# Altium footprint library 3V6_zener_BZT52C3V6-7-F.PcbLib: 3 footprints
Each footprint in its own frame and in the unit in brackets; x right, y up, seen from the top. Pads: shape width x height; smd on the part's side, far side on the other; paste and mask are expansions set on the pad; w line width, h text height; cw(c..) or ccw(c..) is an arc to the next point about the centre after c.
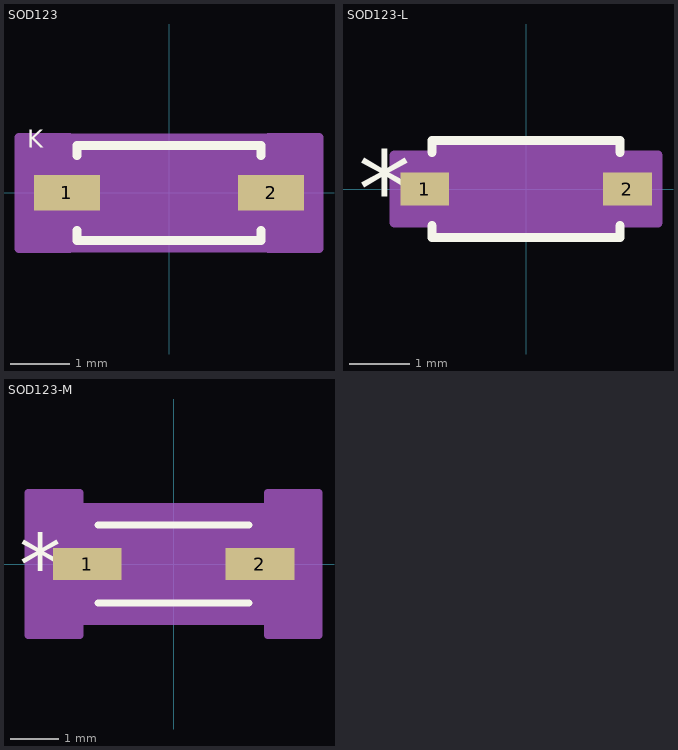
[diagram p0: the footprints below, top view; thin cyan lines are the x and y axes]

## SOD123 [mm]
pads (2):
  rect 1.111x0.601 smd paste+0 mask+0: 1(-1.725,0) 2(1.725,0)
Top Overlay:
  lines w0.152: -1.552,-0.633 -1.552,-0.802 1.552,-0.802 1.552,-0.633 ; -1.552,0.633 -1.552,0.802 1.552,0.802 1.552,0.633
  text "K" at -2.393,0.762 h0.3
Mechanical 13:
  lines w0.025: -1.425,-0.337 -1.087,-0.675 ; -1.425,0.337 -1.087,0.675 ; -1.925,-0.275 -1.425,-0.275 -1.425,0.275 -1.925,0.275 -1.925,-0.275 ; -1.425,-0.675 -1.425,0.675 1.425,0.675 1.425,-0.675 -1.425,-0.675 ; 1.425,-0.275 1.925,-0.275 1.925,0.275 1.425,0.275 1.425,-0.275
  text "*" at -1.488,-0.635 h1.27
Mechanical 15:
  region: -1.679,-0.937 -2.535,-0.937 -2.535,0.937 -1.679,0.937 -1.679,0.929 1.679,0.929 1.679,0.937 2.535,0.937 2.535,-0.937 1.679,-0.937 1.679,-0.929 -1.679,-0.929
  lines w0.152: -2.535,-0.937 -1.679,-0.937 -1.679,-0.929 1.679,-0.929 1.679,-0.937 2.535,-0.937 2.535,0.937 1.679,0.937 1.679,0.929 -1.679,0.929 -1.679,0.937 -2.535,0.937 -2.535,-0.937
3D body: height 0.25, standoff 0, extent 0,0 0.254,0.254
3D body "SOD123.stp": height 0.81, standoff 0, extent -1.925,-0.675 1.925,0.675

## SOD123-L [mm]
pads (2):
  rect 0.806x0.55 smd paste+0 mask+0: 1(-1.674,0) 2(1.674,0)
Top Overlay:
  lines w0.152: -1.552,-0.608 -1.552,-0.802 1.552,-0.802 1.552,-0.608 ; -1.552,0.608 -1.552,0.802 1.552,0.802 1.552,0.608
  text "*" at -2.776,-0.635 h1.27
Mechanical 13:
  lines w0.025: -1.425,-0.337 -1.087,-0.675 ; -1.425,0.337 -1.087,0.675 ; -1.925,-0.275 -1.425,-0.275 -1.425,0.275 -1.925,0.275 -1.925,-0.275 ; -1.425,-0.675 -1.425,0.675 1.425,0.675 1.425,-0.675 -1.425,-0.675 ; 1.425,-0.275 1.925,-0.275 1.925,0.275 1.425,0.275 1.425,-0.275
  text "*" at -1.488,-0.635 h1.27
Mechanical 15:
  region: -1.527,-0.556 -2.179,-0.556 -2.179,0.556 -1.527,0.556 -1.527,0.777 1.527,0.777 1.527,0.556 2.179,0.556 2.179,-0.556 1.527,-0.556 1.527,-0.777 -1.527,-0.777
  lines w0.152: -2.179,-0.556 -1.527,-0.556 -1.527,-0.777 1.527,-0.777 1.527,-0.556 2.179,-0.556 2.179,0.556 1.527,0.556 1.527,0.777 -1.527,0.777 -1.527,0.556 -2.179,0.556 -2.179,-0.556
3D body: height 0.25, standoff 0, extent 0,0 0.254,0.254
3D body "SOD123-L.stp": height 0.81, standoff 0, extent -1.925,-0.675 1.925,0.675

## SOD123-M [mm]
pads (2):
  rect 1.416x0.652 smd paste+0 mask+0: 1(-1.776,0) 2(1.776,0)
Top Overlay:
  lines w0.152: -1.552,-0.802 1.552,-0.802 ; -1.552,0.802 1.552,0.802
  text "*" at -3.182,-0.635 h1.27
Mechanical 13:
  lines w0.025: -1.425,-0.337 -1.087,-0.675 ; -1.425,0.337 -1.087,0.675 ; -1.925,-0.275 -1.925,0.275 -1.425,0.275 -1.425,-0.275 -1.925,-0.275 ; -1.425,-0.675 1.425,-0.675 1.425,0.675 -1.425,0.675 -1.425,-0.675 ; 1.425,-0.275 1.425,0.275 1.925,0.275 1.925,-0.275 1.425,-0.275
  text "*" at -1.488,-0.635 h1.27
Mechanical 15:
  region: -1.933,-1.47 -2.992,-1.47 -2.992,1.47 -1.933,1.47 -1.933,1.183 1.933,1.183 1.933,1.47 2.992,1.47 2.992,-1.47 1.933,-1.47 1.933,-1.183 -1.933,-1.183
  lines w0.152: -2.992,-1.47 -2.992,1.47 -1.933,1.47 -1.933,1.183 1.933,1.183 1.933,1.47 2.992,1.47 2.992,-1.47 1.933,-1.47 1.933,-1.183 -1.933,-1.183 -1.933,-1.47 -2.992,-1.47
3D body: height 0.25, standoff 0, extent 0,0 0.254,0.254
3D body "SOD123-M.stp": height 0.81, standoff 0, extent -1.925,-0.675 1.925,0.675